# Altium footprint library 522070660.PcbLib: 1 footprints
Each footprint in its own frame and in the unit in brackets; x right, y up, seen from the top. Pads: shape width x height; smd on the part's side, far side on the other; paste and mask are expansions set on the pad; w line width, h text height; cw(c..) or ccw(c..) is an arc to the next point about the centre after c.
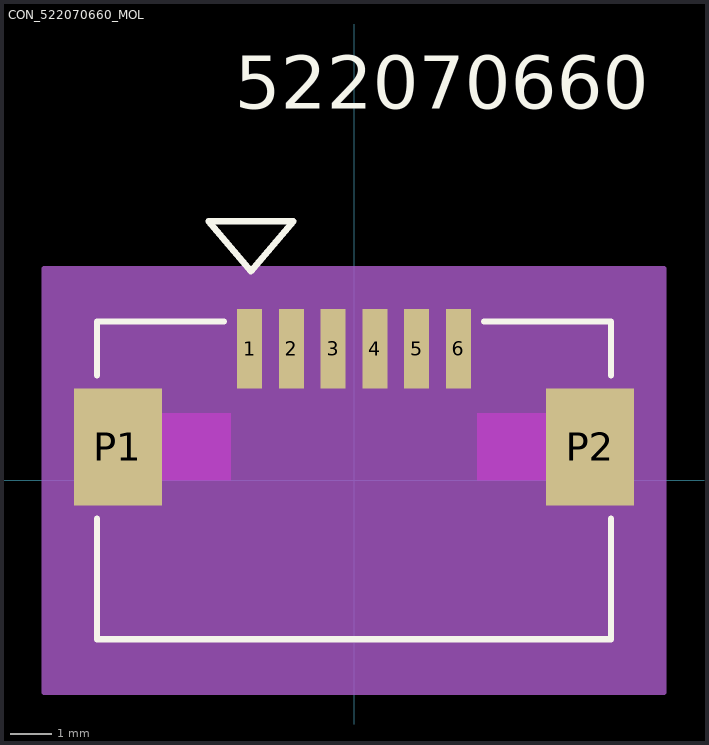
[diagram p0: the footprint, top view; thin cyan lines are the x and y axes]

## CON_522070660_MOL [mm]
pads (8):
  rect 0.6x1.9 smd paste+0 mask+0.076: 1(-2.5,3.15) 2(-1.5,3.15) 3(-0.5,3.15) 4(0.5,3.15) 5(1.5,3.15) 6(2.5,3.15)
  rect 2.1x2.8 smd paste+0 mask+0.076: P1(-5.65,0.8) P2(5.65,0.8)
Top Overlay:
  lines w0.152: -6.15,-0.918 -6.15,-3.8 6.15,-3.8 6.15,-0.918 ; -6.15,2.517 -6.15,3.8 -3.117,3.8 ; 3.118,3.8 6.15,3.8 6.15,2.517 ; -3.483,6.198 -1.451,6.198 -2.467,5.004 -3.483,6.198
  text "522070660" at -2.857,8.89 h1.27
Keep-Out Layer:
  region: -2.95,0 -2.95,1.6 -4.6,1.6 -4.6,0
  region: 2.95,0 2.95,1.6 4.6,1.6 4.6,0
Mechanical 13:
  lines w0.127: -6.15,-3.8 6.15,-3.8 6.15,3.8 -6.15,3.8 -6.15,-3.8 ; -3.483,6.198 -1.451,6.198 -2.467,5.004 -3.483,6.198
  text "522070660" at -2.857,8.89 h1.27
Mechanical 15:
  region: 7.42,5.07 -7.42,5.07 -7.42,-5.07 7.42,-5.07
  lines w0.127: -7.42,-5.07 -7.42,5.07 7.42,5.07 7.42,-5.07 -7.42,-5.07